# EAGLE library part CH340G (library HumanoidLbr)
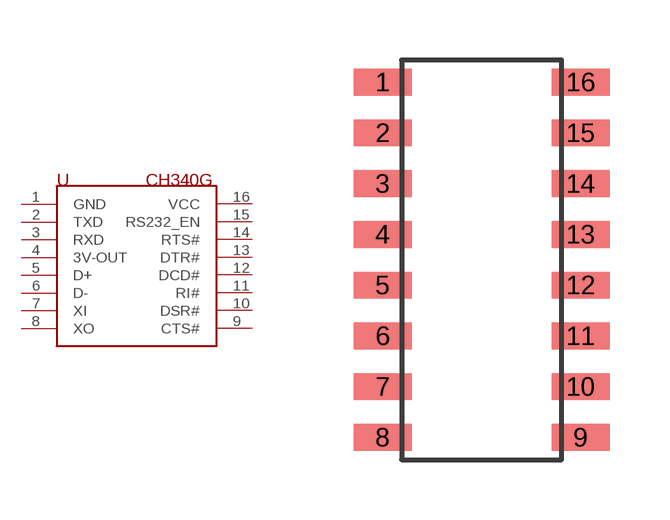
[diagram p0: symbol with the pads of SO-16; footprint SO-16]

Designator prefix U

## CH340G  [SO-16]
1  GND
2  TXD
3  RXD
4  3V-OUT
5  D+
6  D-
7  XI
8  XO
9  CTS#
10  DSR#
11  RI#
12  DCD#
13  DTR#
14  RTS#
15  RS232_EN
16  VCC

## Footprint SO-16 (pad centres in mm)
smd 1.45 x 0.67: 1 -2.475,4.445; 2 -2.475,3.175; 3 -2.475,1.905; 4 -2.475,0.635; 5 -2.475,-0.635; 6 -2.475,-1.905; 7 -2.475,-3.175; 8 -2.475,-4.445; 9 2.475,-4.445; 10 2.475,-3.175; 11 2.475,-1.905; 12 2.475,-0.635; 13 2.475,0.635; 14 2.475,1.905; 15 2.475,3.175; 16 2.475,4.445